# EAGLE library part ECOG_BUSES_ROW (library eCogs)
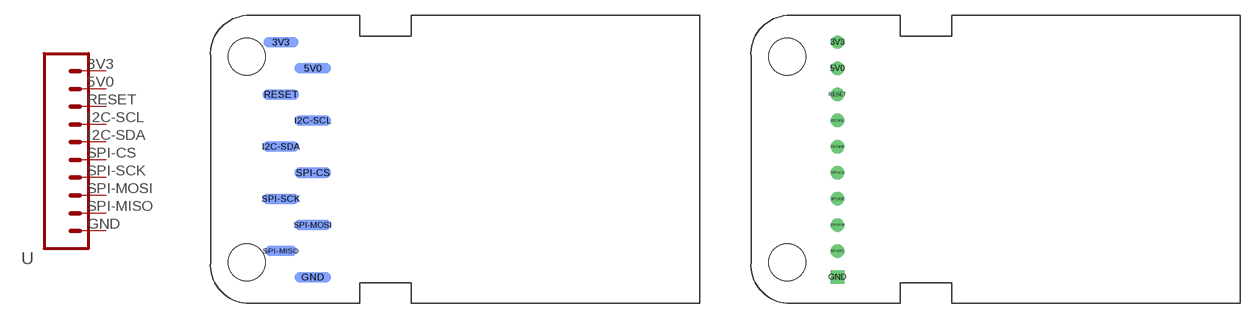
[diagram p2: symbol with the pads of ECOG_BUSES_SMD; footprints ECOG_BUSES_SMD, ECOG_BUSES_TH]

Designator prefix -

## ECOG_BUSES_ROWSURFACEMOUNT (DIGIKEY: S1013EC-10-ND)  [ECOG_BUSES_SMD]
3V3  3V3  pas
5V0  RSV  pas
GND  GND  pas
I2C-SCL  I2C-SCL  pas
I2C-SDA  I2C-SDA  pas
RESET  RSV  pas
SPI-CS  SPI-CS  pas
SPI-MISO  SPI-MISO  pas
SPI-MOSI  SPI-MOSI  pas
SPI-SCK  SPI-SCK  pas

## ECOG_BUSES_ROWTHROUGHHOLE  [ECOG_BUSES_TH]
Pads as for ECOG_BUSES_SMD

## Footprint ECOG_BUSES_SMD (pad centres in mm)
smd 3.4 x 1 bottom: 3V3 7.337,25.4
smd 3.5 x 1 bottom: 5V0 10.436,22.86; GND 10.436,2.54; I2C-SCL 10.436,17.78; I2C-SDA 7.337,15.24; RESET 7.337,20.32; SPI-CS 10.436,12.7; SPI-MOSI 10.436,7.62; SPI-SCK 7.337,10.16
smd 3.1 x 1 bottom: SPI-MISO 7.337,5.08
hole 3.6 at 4.004,24.003
hole 3.6 at 4.004,4.003

## Footprint ECOG_BUSES_TH (pad centres in mm)
drill 0.8: 3V3 8.89,25.4; 5V0 8.89,22.86; I2C-SCL 8.89,17.78; I2C-SDA 8.89,15.24; RESET 8.89,20.32; SPI-CS 8.89,12.7; SPI-MISO 8.89,5.08; SPI-MOSI 8.89,7.62; SPI-SCK 8.89,10.16
drill 0.8 square: GND 8.89,2.54
hole 3.6 at 4.004,24.003
hole 3.6 at 4.004,4.003